# Altium integrated library con-tyco.IntLib: 9 symbols
Pins are listed as number, name and electrical type; pins without a type are passive.

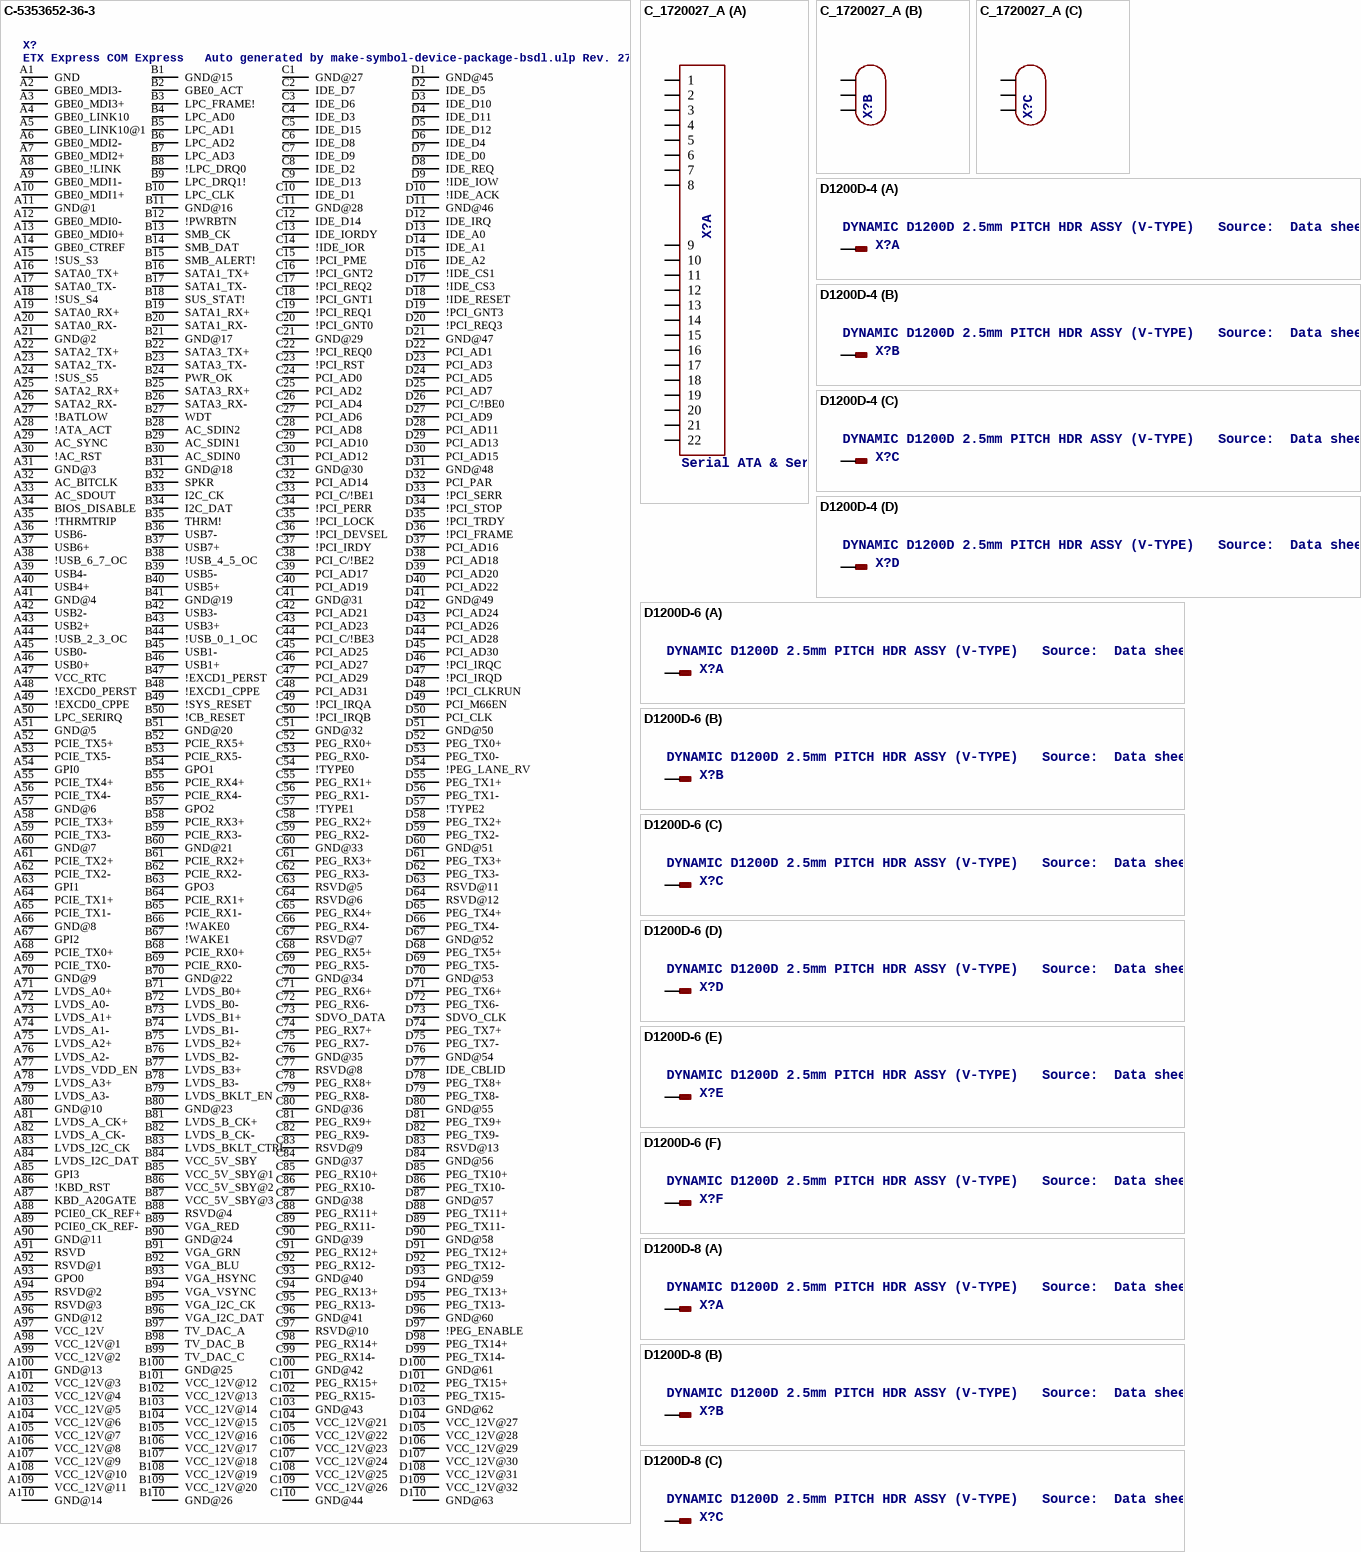
[diagram p0: symbols C-5353652-36-3 to D1200D-8]

## C-5353652-36-3
designator X?, comment ETX Express COM Express   Auto generated by make-symbol-device-package-bsdl.ulp Rev. 27 Source: http://catalog.tycoelectronics.com .. ENG_CS_889092_0.5mm_FH_Conn_0906.pdf http://nordic.kontron.com/searchresult/?searchterm=etxe_designguide_v1.4.pdf
OC_FARNELL: unknown; OC_NEWARK: unknown
footprint C-5353652-36-3
pins: A1 GND, A2 GBE0_MDI3-, A3 GBE0_MDI3+, A4 GBE0_LINK10, A5 GBE0_LINK10@1, A6 GBE0_MDI2-, A7 GBE0_MDI2+, A8 GBE0_!LINK, A9 GBE0_MDI1-, A10 GBE0_MDI1+, A11 GND@1, A12 GBE0_MDI0-, A13 GBE0_MDI0+, A14 GBE0_CTREF, A15 !SUS_S3, A16 SATA0_TX+, A17 SATA0_TX-, A18 !SUS_S4, A19 SATA0_RX+, A20 SATA0_RX-, A21 GND@2, A22 SATA2_TX+, A23 SATA2_TX-, A24 !SUS_S5, A25 SATA2_RX+, A26 SATA2_RX-, A27 !BATLOW, A28 !ATA_ACT, A29 AC_SYNC, A30 !AC_RST, A31 GND@3, A32 AC_BITCLK, A33 AC_SDOUT, A34 BIOS_DISABLE, A35 !THRMTRIP, A36 USB6-, A37 USB6+, A38 !USB_6_7_OC, A39 USB4-, A40 USB4+, A41 GND@4, A42 USB2-, A43 USB2+, A44 !USB_2_3_OC, A45 USB0-, A46 USB0+, A47 VCC_RTC, A48 !EXCD0_PERST, A49 !EXCD0_CPPE, A50 LPC_SERIRQ, A51 GND@5, A52 PCIE_TX5+, A53 PCIE_TX5-, A54 GPI0, A55 PCIE_TX4+, A56 PCIE_TX4-, A57 GND@6, A58 PCIE_TX3+, A59 PCIE_TX3-, A60 GND@7, A61 PCIE_TX2+, A62 PCIE_TX2-, A63 GPI1, A64 PCIE_TX1+, A65 PCIE_TX1-, A66 GND@8, A67 GPI2, A68 PCIE_TX0+, A69 PCIE_TX0-, A70 GND@9, A71 LVDS_A0+, A72 LVDS_A0-, A73 LVDS_A1+, A74 LVDS_A1-, A75 LVDS_A2+, A76 LVDS_A2-, A77 LVDS_VDD_EN, A78 LVDS_A3+, A79 LVDS_A3-, A80 GND@10, A81 LVDS_A_CK+, A82 LVDS_A_CK-, A83 LVDS_I2C_CK, A84 LVDS_I2C_DAT, A85 GPI3, A86 !KBD_RST, A87 KBD_A20GATE, A88 PCIE0_CK_REF+, A89 PCIE0_CK_REF-, A90 GND@11, A91 RSVD, A92 RSVD@1, A93 GPO0, A94 RSVD@2, A95 RSVD@3, A96 GND@12, A97 VCC_12V, A98 VCC_12V@1, A99 VCC_12V@2, A100 GND@13, A101 VCC_12V@3, A102 VCC_12V@4, A103 VCC_12V@5, A104 VCC_12V@6, A105 VCC_12V@7, A106 VCC_12V@8, A107 VCC_12V@9, A108 VCC_12V@10, A109 VCC_12V@11, A110 GND@14, B1 GND@15, B2 GBE0_ACT, B3 LPC_FRAME!, B4 LPC_AD0, B5 LPC_AD1, B6 LPC_AD2, B7 LPC_AD3, B8 !LPC_DRQ0, B9 LPC_DRQ1!, B10 LPC_CLK, B11 GND@16, B12 !PWRBTN, B13 SMB_CK, B14 SMB_DAT, B15 SMB_ALERT!, B16 SATA1_TX+, B17 SATA1_TX-, B18 SUS_STAT!, B19 SATA1_RX+, B20 SATA1_RX-, B21 GND@17, B22 SATA3_TX+, B23 SATA3_TX-, B24 PWR_OK, B25 SATA3_RX+, B26 SATA3_RX-, B27 WDT, B28 AC_SDIN2, B29 AC_SDIN1, B30 AC_SDIN0, B31 GND@18, B32 SPKR, B33 I2C_CK, B34 I2C_DAT, B35 THRM!, B36 USB7-, B37 USB7+, B38 !USB_4_5_OC, B39 USB5-, B40 USB5+, B41 GND@19, B42 USB3-, B43 USB3+, B44 !USB_0_1_OC, B45 USB1-, B46 USB1+, B47 !EXCD1_PERST, B48 !EXCD1_CPPE, B49 !SYS_RESET, B50 !CB_RESET, B51 GND@20, B52 PCIE_RX5+, B53 PCIE_RX5-, B54 GPO1, B55 PCIE_RX4+, B56 PCIE_RX4-, B57 GPO2, B58 PCIE_RX3+, B59 PCIE_RX3-, B60 GND@21, B61 PCIE_RX2+, B62 PCIE_RX2-, B63 GPO3, B64 PCIE_RX1+, B65 PCIE_RX1-, B66 !WAKE0, B67 !WAKE1, B68 PCIE_RX0+, B69 PCIE_RX0-, B70 GND@22, B71 LVDS_B0+, B72 LVDS_B0-, B73 LVDS_B1+, B74 LVDS_B1-, B75 LVDS_B2+, B76 LVDS_B2-, B77 LVDS_B3+, B78 LVDS_B3-, B79 LVDS_BKLT_EN, B80 GND@23, B81 LVDS_B_CK+, B82 LVDS_B_CK-, B83 LVDS_BKLT_CTRL, B84 VCC_5V_SBY, B85 VCC_5V_SBY@1, B86 VCC_5V_SBY@2, B87 VCC_5V_SBY@3, B88 RSVD@4, B89 VGA_RED, B90 GND@24, B91 VGA_GRN, B92 VGA_BLU, B93 VGA_HSYNC, B94 VGA_VSYNC, B95 VGA_I2C_CK, B96 VGA_I2C_DAT, B97 TV_DAC_A, B98 TV_DAC_B, B99 TV_DAC_C, B100 GND@25, B101 VCC_12V@12, B102 VCC_12V@13, B103 VCC_12V@14, B104 VCC_12V@15, B105 VCC_12V@16, B106 VCC_12V@17, B107 VCC_12V@18, B108 VCC_12V@19, B109 VCC_12V@20, B110 GND@26, C1 GND@27, C2 IDE_D7, C3 IDE_D6, C4 IDE_D3, C5 IDE_D15, C6 IDE_D8, C7 IDE_D9, C8 IDE_D2, C9 IDE_D13, C10 IDE_D1, C11 GND@28, C12 IDE_D14, C13 IDE_IORDY, C14 !IDE_IOR, C15 !PCI_PME, C16 !PCI_GNT2, C17 !PCI_REQ2, C18 !PCI_GNT1, C19 !PCI_REQ1, C20 !PCI_GNT0, C21 GND@29, C22 !PCI_REQ0, C23 !PCI_RST, C24 PCI_AD0, C25 PCI_AD2, C26 PCI_AD4, C27 PCI_AD6, C28 PCI_AD8, C29 PCI_AD10, C30 PCI_AD12, C31 GND@30, C32 PCI_AD14, C33 PCI_C/!BE1, C34 !PCI_PERR, C35 !PCI_LOCK, C36 !PCI_DEVSEL, C37 !PCI_IRDY, C38 PCI_C/!BE2, C39 PCI_AD17, C40 PCI_AD19, C41 GND@31, C42 PCI_AD21, C43 PCI_AD23, C44 PCI_C/!BE3, C45 PCI_AD25, C46 PCI_AD27, C47 PCI_AD29, C48 PCI_AD31, C49 !PCI_IRQA, C50 !PCI_IRQB, C51 GND@32, C52 PEG_RX0+, C53 PEG_RX0-, C54 !TYPE0, C55 PEG_RX1+, C56 PEG_RX1-, C57 !TYPE1, C58 PEG_RX2+, C59 PEG_RX2-, C60 GND@33, C61 PEG_RX3+, C62 PEG_RX3-, C63 RSVD@5, C64 RSVD@6, C65 PEG_RX4+, C66 PEG_RX4-, C67 RSVD@7, C68 PEG_RX5+, C69 PEG_RX5-, C70 GND@34, C71 PEG_RX6+, C72 PEG_RX6-, C73 SDVO_DATA, C74 PEG_RX7+, C75 PEG_RX7-, C76 GND@35, C77 RSVD@8, C78 PEG_RX8+, C79 PEG_RX8-, C80 GND@36, C81 PEG_RX9+, C82 PEG_RX9-, C83 RSVD@9, C84 GND@37, C85 PEG_RX10+, C86 PEG_RX10-, C87 GND@38, C88 PEG_RX11+, C89 PEG_RX11-, C90 GND@39, C91 PEG_RX12+, C92 PEG_RX12-, C93 GND@40, C94 PEG_RX13+, C95 PEG_RX13-, C96 GND@41, C97 RSVD@10, C98 PEG_RX14+, C99 PEG_RX14-, C100 GND@42, C101 PEG_RX15+, C102 PEG_RX15-, C103 GND@43, C104 VCC_12V@21, C105 VCC_12V@22, C106 VCC_12V@23, C107 VCC_12V@24, C108 VCC_12V@25, C109 VCC_12V@26, C110 GND@44, D1 GND@45, D2 IDE_D5, D3 IDE_D10, D4 IDE_D11, D5 IDE_D12, D6 IDE_D4, D7 IDE_D0, D8 IDE_REQ, D9 !IDE_IOW, D10 !IDE_ACK, D11 GND@46, D12 IDE_IRQ, D13 IDE_A0, D14 IDE_A1, D15 IDE_A2, D16 !IDE_CS1, D17 !IDE_CS3, D18 !IDE_RESET, D19 !PCI_GNT3, D20 !PCI_REQ3, D21 GND@47, D22 PCI_AD1, D23 PCI_AD3, D24 PCI_AD5, D25 PCI_AD7, D26 PCI_C/!BE0, D27 PCI_AD9, D28 PCI_AD11, D29 PCI_AD13, D30 PCI_AD15, D31 GND@48, D32 PCI_PAR, D33 !PCI_SERR, D34 !PCI_STOP, D35 !PCI_TRDY, D36 !PCI_FRAME, D37 PCI_AD16, D38 PCI_AD18, D39 PCI_AD20, D40 PCI_AD22, D41 GND@49, D42 PCI_AD24, D43 PCI_AD26, D44 PCI_AD28, D45 PCI_AD30, D46 !PCI_IRQC, D47 !PCI_IRQD, D48 !PCI_CLKRUN, D49 PCI_M66EN, D50 PCI_CLK, D51 GND@50, D52 PEG_TX0+, D53 PEG_TX0-, D54 !PEG_LANE_RV, D55 PEG_TX1+, D56 PEG_TX1-, D57 !TYPE2, D58 PEG_TX2+, D59 PEG_TX2-, D60 GND@51, D61 PEG_TX3+, D62 PEG_TX3-, D63 RSVD@11, D64 RSVD@12, D65 PEG_TX4+, D66 PEG_TX4-, D67 GND@52, D68 PEG_TX5+, D69 PEG_TX5-, D70 GND@53, D71 PEG_TX6+, D72 PEG_TX6-, D73 SDVO_CLK, D74 PEG_TX7+, D75 PEG_TX7-, D76 GND@54, D77 IDE_CBLID, D78 PEG_TX8+, D79 PEG_TX8-, D80 GND@55, D81 PEG_TX9+, D82 PEG_TX9-, D83 RSVD@13, D84 GND@56, D85 PEG_TX10+, D86 PEG_TX10-, D87 GND@57, D88 PEG_TX11+, D89 PEG_TX11-, D90 GND@58, D91 PEG_TX12+, D92 PEG_TX12-, D93 GND@59, D94 PEG_TX13+, D95 PEG_TX13-, D96 GND@60, D97 !PEG_ENABLE, D98 PEG_TX14+, D99 PEG_TX14-, D100 GND@61, D101 PEG_TX15+, D102 PEG_TX15-, D103 GND@62, D104 VCC_12V@27, D105 VCC_12V@28, D106 VCC_12V@29, D107 VCC_12V@30, D108 VCC_12V@31, D109 VCC_12V@32, D110 GND@63

## C_1720027_A
designator X?, comment Serial ATA & Serial Attached SCSI   Source: http://catalog.tycoelectronics.com .. C_1720027_A.pdf
OC_FARNELL: unknown; OC_NEWARK: unknown
footprint C_1720027_A
part A pins: 1, 2, 3, 4, 5, 6, 7, 8, 9, 10, 11, 12, 13, 14, 15, 16, 17, 18, 19, 20, 21, 22
part B pins: M1@1 M@1, M1@2 M@2, M1@3 M@3
part C pins: M2@1 M@1, M2@2 M@2, M2@3 M@3

## D1200D-4
designator X?, comment DYNAMIC D1200D 2.5mm PITCH HDR ASSY (V-TYPE)   Source:  Data sheet
footprint D1200D-4
part A pins: A1 1
part B pins: A2 1
part C pins: B1 1
part D pins: B2 1

## D1200D-6
designator X?, comment DYNAMIC D1200D 2.5mm PITCH HDR ASSY (V-TYPE)   Source:  Data sheet
footprint D1200D-6
part A pins: A1 1
part B pins: A2 1
part C pins: A3 1
part D pins: B1 1
part E pins: B2 1
part F pins: B3 1

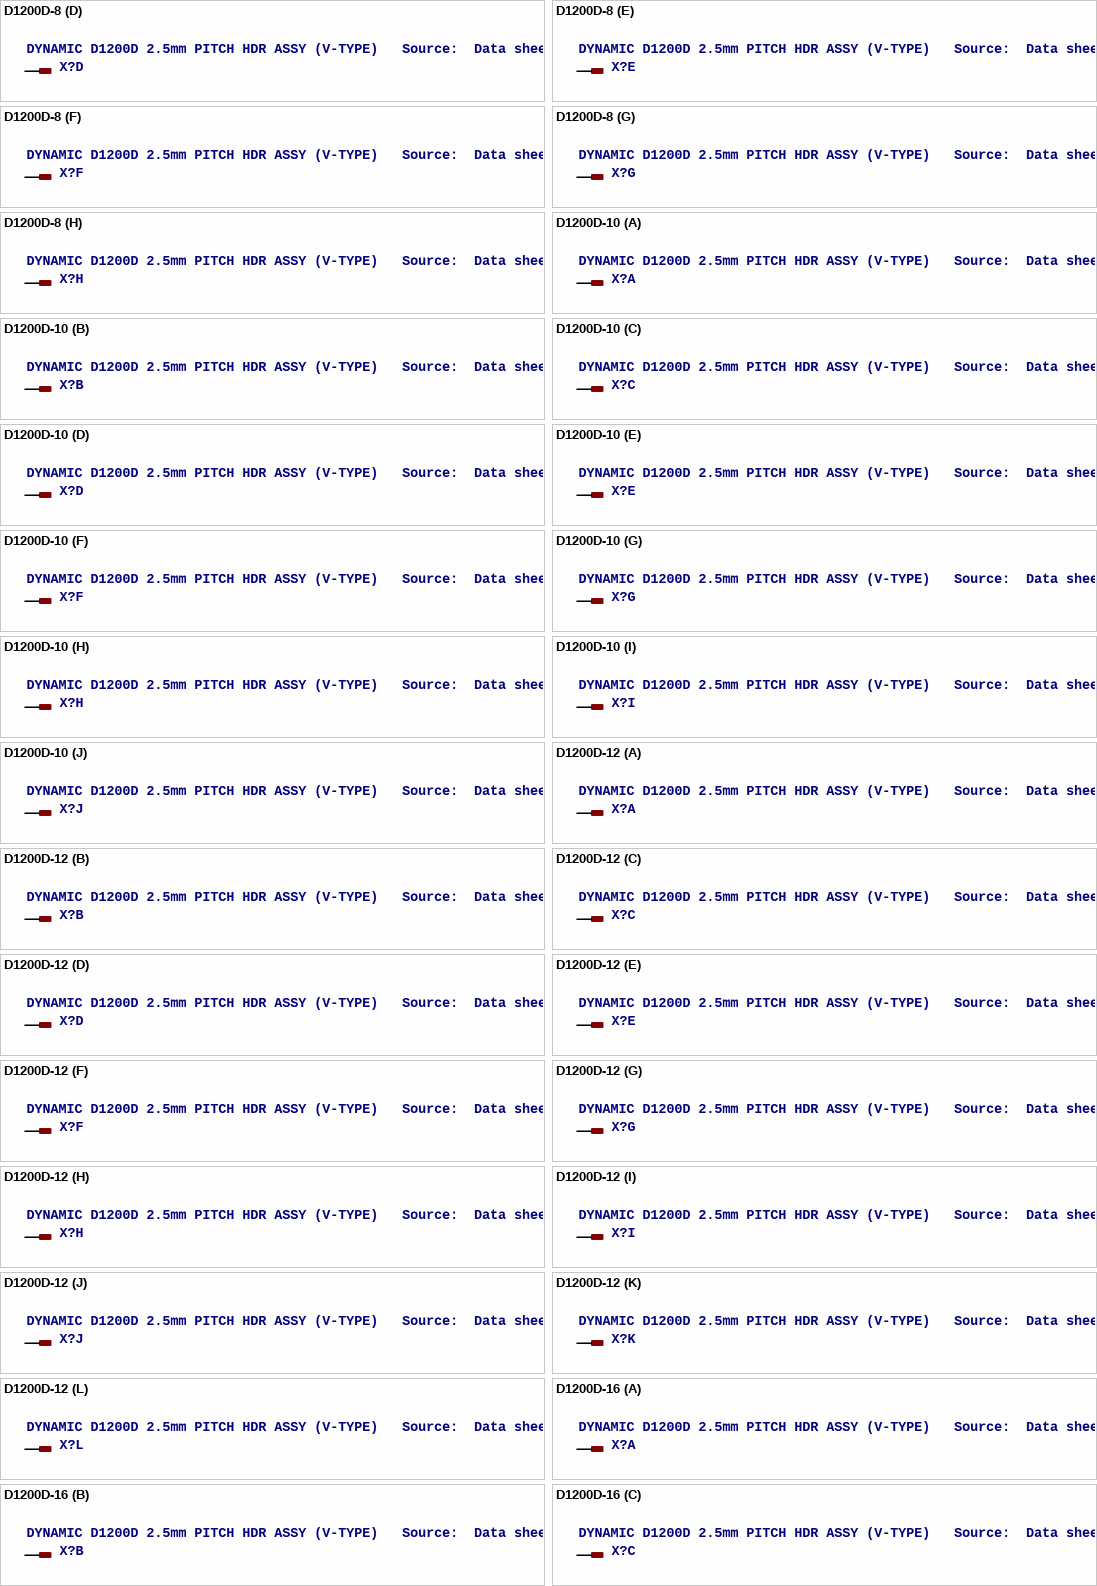
[diagram p1: symbols D1200D-8 to D1200D-16]

## D1200D-8
designator X?, comment DYNAMIC D1200D 2.5mm PITCH HDR ASSY (V-TYPE)   Source:  Data sheet
footprint D1200D-8
part A pins: A1 1
part B pins: A2 1
part C pins: A3 1
part D pins: A4 1
part E pins: B1 1
part F pins: B2 1
part G pins: B3 1
part H pins: B4 1

## D1200D-10
designator X?, comment DYNAMIC D1200D 2.5mm PITCH HDR ASSY (V-TYPE)   Source:  Data sheet
footprint D1200D-10
part A pins: A1 1
part B pins: A2 1
part C pins: A3 1
part D pins: A4 1
part E pins: A5 1
part F pins: B1 1
part G pins: B2 1
part H pins: B3 1
part I pins: B4 1
part J pins: B5 1

## D1200D-12
designator X?, comment DYNAMIC D1200D 2.5mm PITCH HDR ASSY (V-TYPE)   Source:  Data sheet
footprint D1200D-12
part A pins: A1 1
part B pins: A2 1
part C pins: A3 1
part D pins: A4 1
part E pins: A5 1
part F pins: A6 1
part G pins: B1 1
part H pins: B2 1
part I pins: B3 1
part J pins: B4 1
part K pins: B5 1
part L pins: B6 1

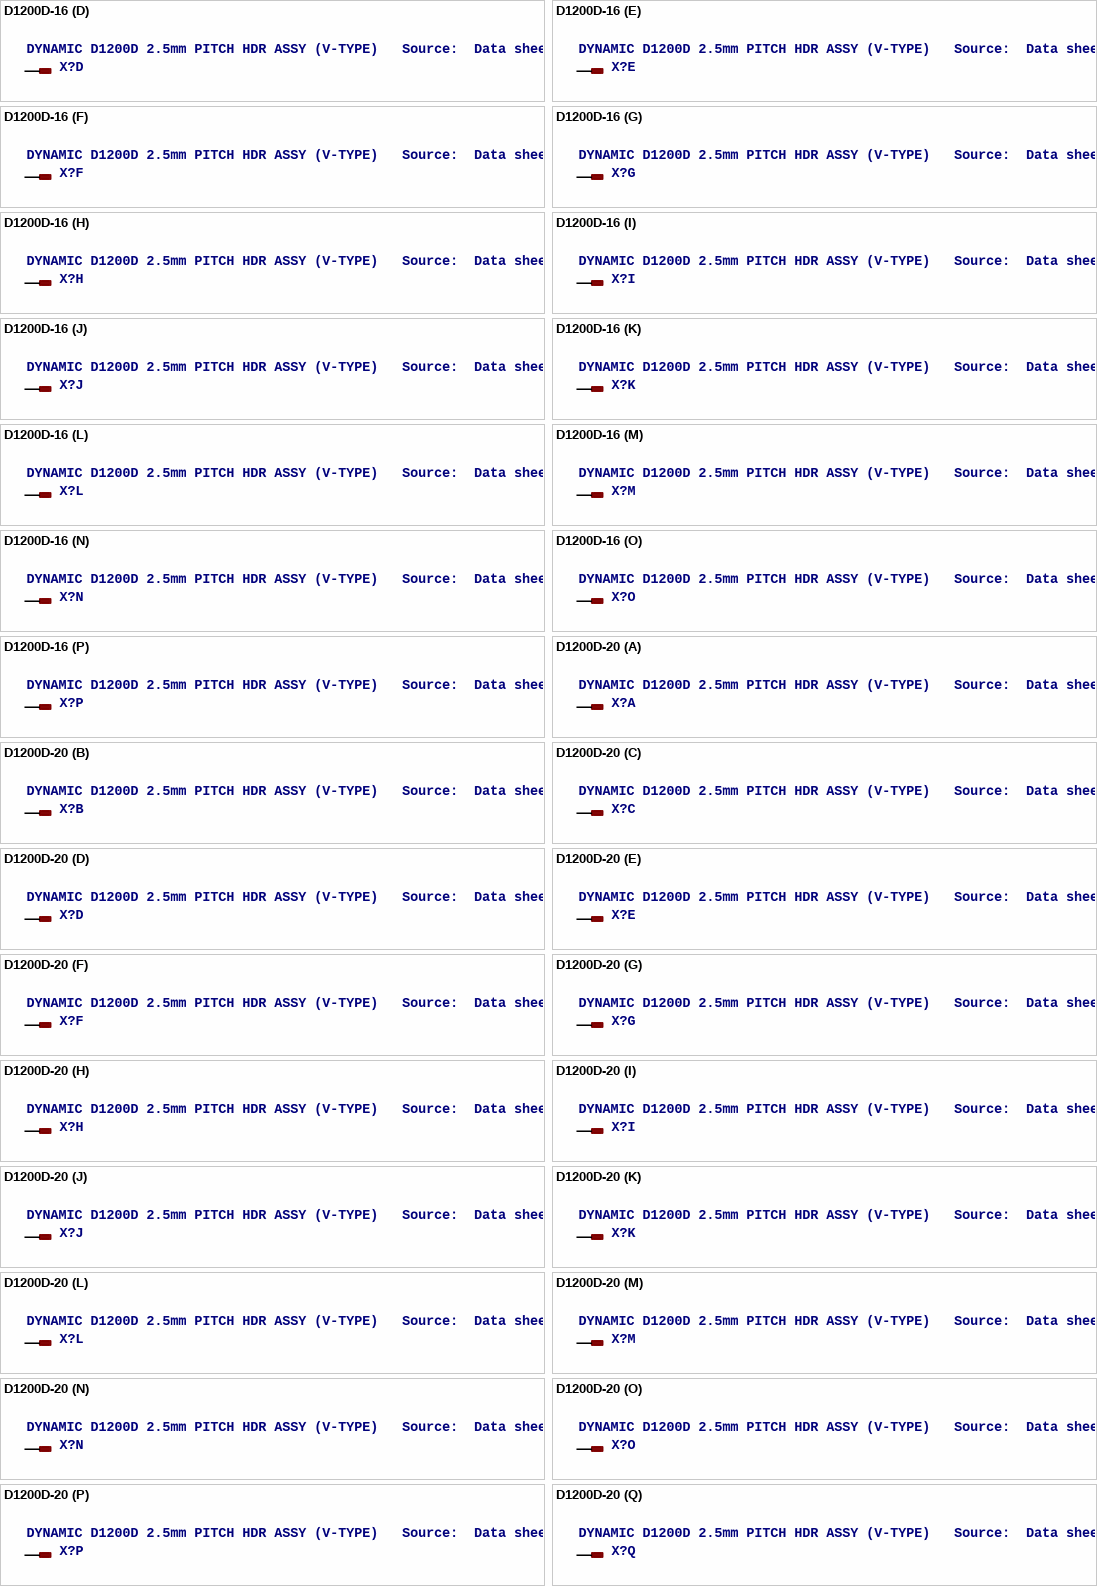
[diagram p2: symbols D1200D-16 to D1200D-20]

## D1200D-16
designator X?, comment DYNAMIC D1200D 2.5mm PITCH HDR ASSY (V-TYPE)   Source:  Data sheet
footprint D1200D-16
part A pins: A1 1
part B pins: A2 1
part C pins: A3 1
part D pins: A4 1
part E pins: A5 1
part F pins: A6 1
part G pins: A7 1
part H pins: A8 1
part I pins: B1 1
part J pins: B2 1
part K pins: B3 1
part L pins: B4 1
part M pins: B5 1
part N pins: B6 1
part O pins: B7 1
part P pins: B8 1

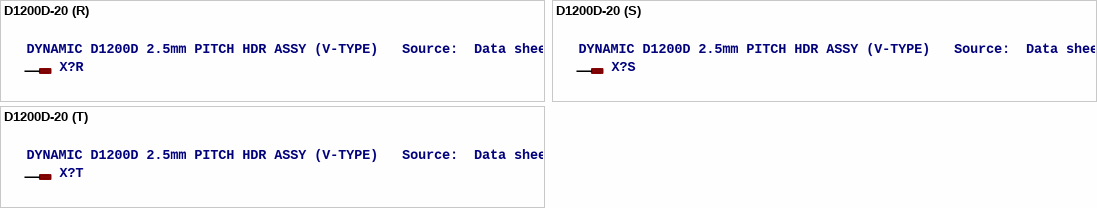
[diagram p3: symbol D1200D-20]

## D1200D-20
designator X?, comment DYNAMIC D1200D 2.5mm PITCH HDR ASSY (V-TYPE)   Source:  Data sheet
footprint D1200D-20
part A pins: A1 1
part B pins: A2 1
part C pins: A3 1
part D pins: A4 1
part E pins: A5 1
part F pins: A6 1
part G pins: A7 1
part H pins: A8 1
part I pins: A9 1
part J pins: A10 1
part K pins: B1 1
part L pins: B2 1
part M pins: B3 1
part N pins: B4 1
part O pins: B5 1
part P pins: B6 1
part Q pins: B7 1
part R pins: B8 1
part S pins: B9 1
part T pins: B10 1